# EAGLE library part MOLEX-53780-1470 (library con-Molex-53780)
Molex 53780 14-way right-angle SMD
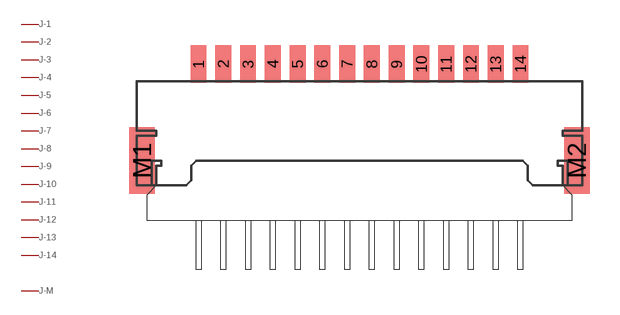
[diagram p1: symbol with the pads of 53780-1470; footprint 53780-1470]

Designator prefix J; gates -1=PIN -2=PIN -3=PIN -4=PIN -5=PIN -6=PIN -7=PIN -8=PIN -9=PIN -10=PIN -11=PIN -12=PIN -13=PIN -14=PIN -M=PIN

## MOLEX-53780-1470  [53780-1470]
1  -1:P
2  -2:P
3  -3:P
4  -4:P
5  -5:P
6  -6:P
7  -7:P
8  -8:P
9  -9:P
10  -10:P
11  -11:P
12  -12:P
13  -13:P
14  -14:P
M1  -M:P
M2  -M:P

## Footprint 53780-1470 (pad centres in mm)
smd 0.8 x 1.9: 1 -8.125,3.875; 2 -6.875,3.875; 3 -5.625,3.875; 4 -4.375,3.875; 5 -3.125,3.875; 6 -1.875,3.875; 7 -0.625,3.875; 8 0.625,3.875; 9 1.875,3.875; 10 3.125,3.875; 11 4.375,3.875; 12 5.625,3.875; 13 6.875,3.875; 14 8.125,3.875
smd 1.3 x 3.35: M1 -10.975,-1; M2 10.975,-1